# Altium schematic symbol library 2.54_Connector_x6.SchLib: 1 symbol
Pins are listed as number, name and electrical type; pins without a type are passive.

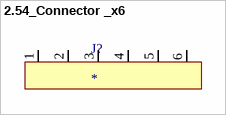
[diagram p0: symbol 2.54_Connector _x6]

## 2.54_Connector _x6
designator J?
pins: 1, 2, 3, 4, 5, 6